# EAGLE library part MARIONETTE (library waveshare-board)
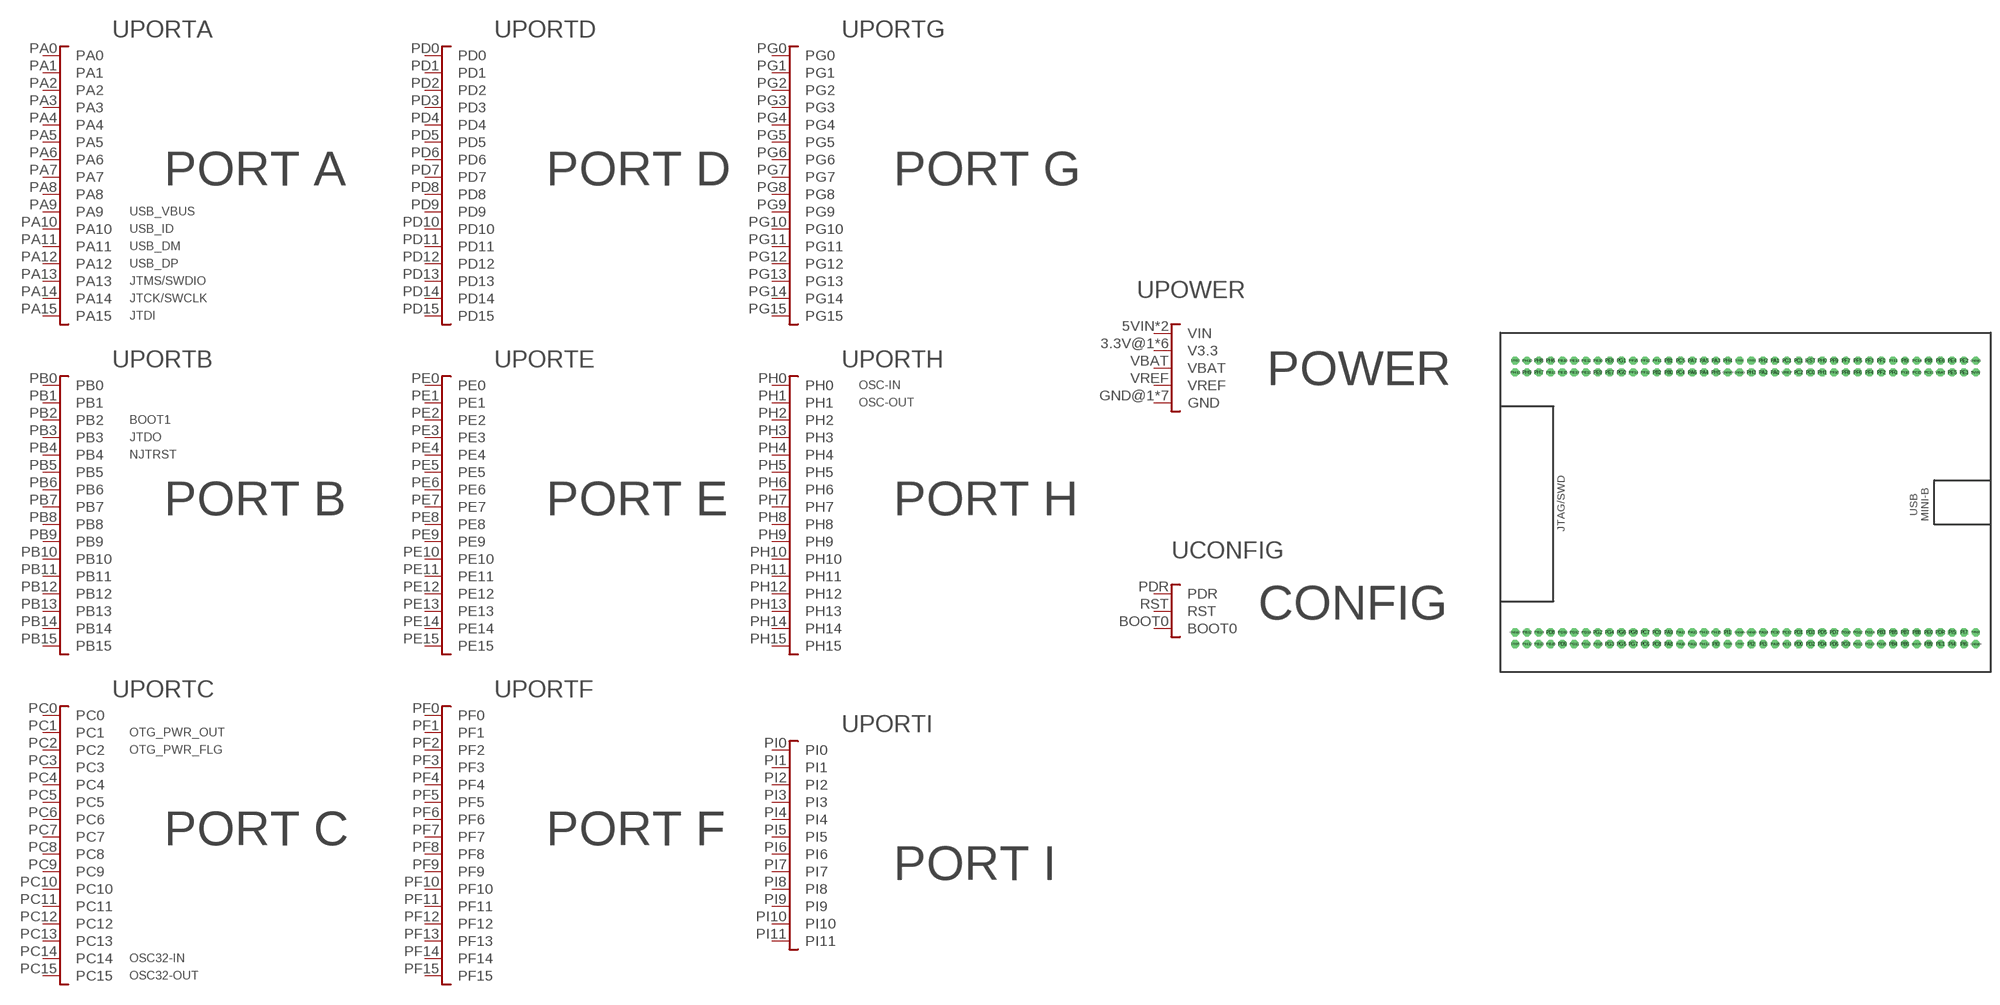
[diagram p0: symbol with the pads of WAVESHARE_MARIONETTE; footprint WAVESHARE_MARIONETTE]

Designator prefix U; gates PORTA=MARIONETTE_PORTA PORTB=MARIONETTE_PORTB PORTC=MARIONETTE_PORTC PORTD=MARIONETTE_PORTD PORTE=MARIONETTE_PORTE PORTF=MARIONETTE_PORTF PORTG=MARIONETTE_PORTG PORTH=MARIONETTE_PORTH PORTI=MARIONETTE_PORTI POWER=MARIONETTE_POWER CONFIG=MARIONETTE_CONFIG

## MARIONETTE  [WAVESHARE_MARIONETTE]
3.3V@1  POWER:V3.3  pwr
3.3V@2  POWER:V3.3  pwr
3.3V@3  POWER:V3.3  pwr
3.3V@4  POWER:V3.3  pwr
3.3V@5  POWER:V3.3  pwr
3.3V@6  POWER:V3.3  pwr
5VIN  POWER:VIN  pwr
5VIN@2  POWER:VIN  pwr
BOOT0  CONFIG:BOOT0
GND@1  POWER:GND  pwr
GND@2  POWER:GND  pwr
GND@3  POWER:GND  pwr
GND@4  POWER:GND  pwr
GND@5  POWER:GND  pwr
GND@6  POWER:GND  pwr
GND@7  POWER:GND  pwr
PA0  PORTA:PA0
PA1  PORTA:PA1
PA2  PORTA:PA2
PA3  PORTA:PA3
PA4  PORTA:PA4
PA5  PORTA:PA5
PA6  PORTA:PA6
PA7  PORTA:PA7
PA8  PORTA:PA8
PA9  PORTA:PA9
PA10  PORTA:PA10
PA11  PORTA:PA11
PA12  PORTA:PA12
PA13  PORTA:PA13
PA14  PORTA:PA14
PA15  PORTA:PA15
PB0  PORTB:PB0
PB1  PORTB:PB1
PB2  PORTB:PB2
PB3  PORTB:PB3
PB4  PORTB:PB4
PB5  PORTB:PB5
PB6  PORTB:PB6
PB7  PORTB:PB7
PB8  PORTB:PB8
PB9  PORTB:PB9
PB10  PORTB:PB10
PB11  PORTB:PB11
PB12  PORTB:PB12
PB13  PORTB:PB13
PB14  PORTB:PB14
PB15  PORTB:PB15
PC0  PORTC:PC0
PC1  PORTC:PC1
PC2  PORTC:PC2
PC3  PORTC:PC3
PC4  PORTC:PC4
PC5  PORTC:PC5
PC6  PORTC:PC6
PC7  PORTC:PC7
PC8  PORTC:PC8
PC9  PORTC:PC9
PC10  PORTC:PC10
PC11  PORTC:PC11
PC12  PORTC:PC12
PC13  PORTC:PC13
PC14  PORTC:PC14
PC15  PORTC:PC15
PD0  PORTD:PD0
PD1  PORTD:PD1
PD2  PORTD:PD2
PD3  PORTD:PD3
PD4  PORTD:PD4
PD5  PORTD:PD5
PD6  PORTD:PD6
PD7  PORTD:PD7
PD8  PORTD:PD8
PD9  PORTD:PD9
PD10  PORTD:PD10
PD11  PORTD:PD11
PD12  PORTD:PD12
PD13  PORTD:PD13
PD14  PORTD:PD14
PD15  PORTD:PD15
PDR  CONFIG:PDR
PE0  PORTE:PE0
PE1  PORTE:PE1
PE2  PORTE:PE2
PE3  PORTE:PE3
PE4  PORTE:PE4
PE5  PORTE:PE5
PE6  PORTE:PE6
PE7  PORTE:PE7
PE8  PORTE:PE8
PE9  PORTE:PE9
PE10  PORTE:PE10
PE11  PORTE:PE11
PE12  PORTE:PE12
PE13  PORTE:PE13
PE14  PORTE:PE14
PE15  PORTE:PE15
PF0  PORTF:PF0
PF1  PORTF:PF1
PF2  PORTF:PF2
PF3  PORTF:PF3
PF4  PORTF:PF4
PF5  PORTF:PF5
PF6  PORTF:PF6
PF7  PORTF:PF7
PF8  PORTF:PF8
PF9  PORTF:PF9
PF10  PORTF:PF10
PF11  PORTF:PF11
PF12  PORTF:PF12
PF13  PORTF:PF13
PF14  PORTF:PF14
PF15  PORTF:PF15
PG0  PORTG:PG0
PG1  PORTG:PG1
PG2  PORTG:PG2
PG3  PORTG:PG3
PG4  PORTG:PG4
PG5  PORTG:PG5
PG6  PORTG:PG6
PG7  PORTG:PG7
PG8  PORTG:PG8
PG9  PORTG:PG9
PG10  PORTG:PG10
PG11  PORTG:PG11
PG12  PORTG:PG12
PG13  PORTG:PG13
PG14  PORTG:PG14
PG15  PORTG:PG15
PH0  PORTH:PH0
PH1  PORTH:PH1
PH2  PORTH:PH2
PH3  PORTH:PH3
PH4  PORTH:PH4
PH5  PORTH:PH5
PH6  PORTH:PH6
PH7  PORTH:PH7
PH8  PORTH:PH8
PH9  PORTH:PH9
PH10  PORTH:PH10
PH11  PORTH:PH11
PH12  PORTH:PH12
PH13  PORTH:PH13
PH14  PORTH:PH14
PH15  PORTH:PH15
PI0  PORTI:PI0
PI1  PORTI:PI1
PI2  PORTI:PI2
PI3  PORTI:PI3
PI4  PORTI:PI4
PI5  PORTI:PI5
PI6  PORTI:PI6
PI7  PORTI:PI7
PI8  PORTI:PI8
PI9  PORTI:PI9
PI10  PORTI:PI10
PI11  PORTI:PI11
RST  CONFIG:RST
VBAT  POWER:VBAT  pwr
VREF  POWER:VREF  pwr

## Footprint WAVESHARE_MARIONETTE (pad centres in mm)
Footprint for Marionette STM32 Waveshare Core407I http://www.wvshare.com/product/Core407I.htm
drill 0.838 octagon: 3.3V@1 42.49,52.75; 3.3V@2 40.49,52.75; 3.3V@3 2.49,52.75; 3.3V@4 40.49,4.75; 3.3V@5 2.49,4.75; 3.3V@6 38.49,4.75; 5VIN 80.49,50.75; 5VIN@2 80.49,6.75; BOOT0 70.49,4.75; GND@1 80.49,52.75; GND@2 40.49,50.75; GND@3 38.49,50.75; GND@4 80.49,4.75; GND@5 42.49,6.75; GND@6 40.49,6.75; GND@7 2.49,6.75; PA0 46.49,50.75; PA1 46.49,52.75; PA2 44.49,50.75; PA3 36.49,52.75; PA4 34.49,50.75; PA5 34.49,52.75; PA6 32.49,50.75; PA7 32.49,52.75; PA8 28.49,4.75; PA9 28.49,6.75; PA10 30.49,4.75; PA11 30.49,6.75; PA12 32.49,4.75; PA13 32.49,6.75; PA14 44.49,6.75; PA15 46.49,4.75; PB0 28.49,50.75; PB1 28.49,52.75; PB2 26.49,50.75; PB3 64.49,6.75; PB4 66.49,4.75; PB5 66.49,6.75; PB6 68.49,4.75; PB7 68.49,6.75; PB8 70.49,6.75; PB9 72.49,4.75; PB10 10.49,52.75; PB11 8.49,50.75; PB12 4.49,6.75; PB13 6.49,4.75; PB14 6.49,6.75; PB15 8.49,4.75; PC0 52.49,50.75; PC1 50.49,52.75; PC2 50.49,50.75; PC3 48.49,52.75; PC4 30.49,50.75; PC5 30.49,52.75; PC6 24.49,4.75; PC7 24.49,6.75; PC8 26.49,4.75; PC9 26.49,6.75; PC10 46.49,6.75; PC11 48.49,4.75; PC12 48.49,6.75; PC13 72.49,50.75; PC14 70.49,52.75; PC15 70.49,50.75; PD0 50.49,4.75; PD1 50.49,6.75; PD2 52.49,4.75; PD3 52.49,6.75; PD4 54.49,4.75; PD5 54.49,6.75; PD6 56.49,4.75; PD7 56.49,6.75; PD8 8.49,6.75; PD9 10.49,4.75; PD10 10.49,6.75; PD11 12.49,4.75; PD12 12.49,6.75; PD13 14.49,4.75; PD14 14.49,6.75; PD15 16.49,4.75; PDR 74.49,6.75; PE0 72.49,6.75; PE1 74.49,4.75; PE2 78.49,52.75; PE3 78.49,50.75; PE4 76.49,52.75; PE5 76.49,50.75; PE6 74.49,52.75; PE7 18.49,50.75; PE8 18.49,52.75; PE9 16.49,50.75; PE10 16.49,52.75; PE11 14.49,50.75; PE12 14.49,52.75; PE13 12.49,50.75; PE14 12.49,52.75; PE15 10.49,50.75; PF0 66.49,50.75; PF1 64.49,52.75; PF2 64.49,50.75; PF3 62.49,52.75; PF4 62.49,50.75; PF5 60.49,52.75; PF6 60.49,50.75; PF7 58.49,52.75; PF8 58.49,50.75; PF9 56.49,52.75; PF10 56.49,50.75; PF11 26.49,52.75; PF12 24.49,50.75; PF13 24.49,52.75; PF14 22.49,50.75; PF15 22.49,52.75; PG0 20.49,50.75; PG1 20.49,52.75; PG2 16.49,6.75; PG3 18.49,4.75; PG4 18.49,6.75; PG5 20.49,4.75; PG6 20.49,6.75; PG7 22.49,4.75; PG8 22.49,6.75; PG9 58.49,4.75; PG10 58.49,6.75; PG11 60.49,4.75; PG12 60.49,6.75; PG13 62.49,4.75; PG14 62.49,6.75; PG15 64.49,4.75; PH0 54.49,52.75; PH1 54.49,50.75; PH2 44.49,52.75; PH3 42.49,50.75; PH4 38.49,52.75; PH5 36.49,50.75; PH6 8.49,52.75; PH7 6.49,50.75; PH8 6.49,52.75; PH9 4.49,50.75; PH10 4.49,52.75; PH11 2.49,50.75; PH12 4.49,4.75; PH13 34.49,6.75; PH14 34.49,4.75; PH15 36.49,6.75; PI0 36.49,4.75; PI1 38.49,6.75; PI2 42.49,4.75; PI3 44.49,4.75; PI4 76.49,4.75; PI5 76.49,6.75; PI6 78.49,4.75; PI7 78.49,6.75; PI8 72.49,52.75; PI9 68.49,52.75; PI10 68.49,50.75; PI11 66.49,52.75; RST 52.49,52.75; VBAT 74.49,50.75; VREF 48.49,50.75